# Altium schematic symbol library Switch.SchLib: 1 symbol
Pins are listed as number, name and electrical type; pins without a type are passive.

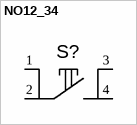
[diagram p0: symbol NO12_34]

## NO12_34
designator S?
pins: 1, 2, 3, 4